# EAGLE library part J-6-PS2-KEYBOARD (library conn)
IBM PS/2 keyboard connector
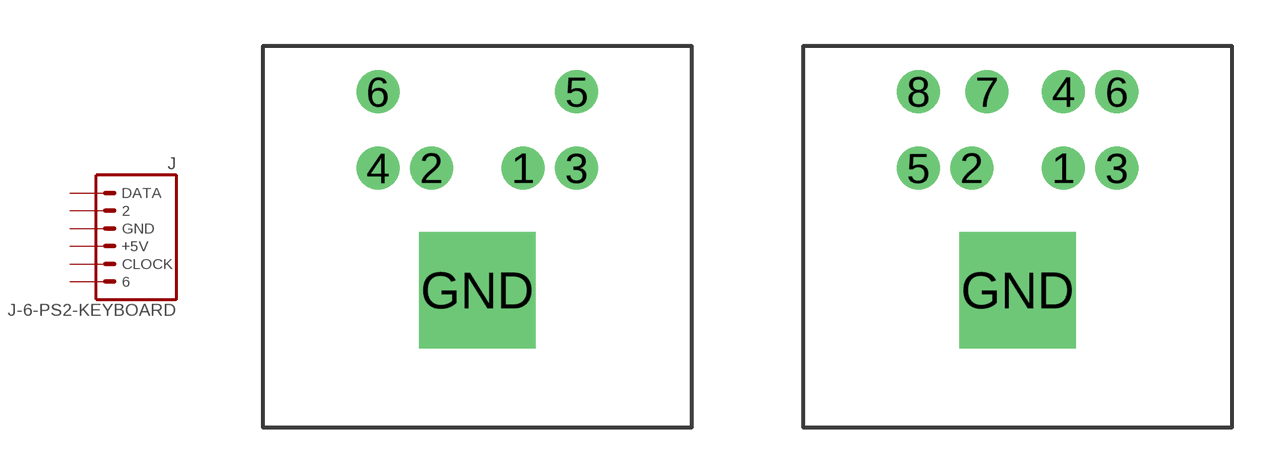
[diagram p5: symbol with the pads of J-6-MINIDIN-KMD11; footprints J-6-MINIDIN-KMD11, J-8-MINIDIN-KMD11]

Designator prefix J

## J-6-PS2-KEYBOARD-MINIDIN6  [J-6-MINIDIN-KMD11]
1  DATA  pas
2  2  pas
3  GND  pas
4  +5V  pas
5  CLOCK  pas
6  6  pas
GND  GND  pas

## J-6-PS2-KEYBOARD-MINIDIN8  [J-8-MINIDIN-KMD11]
1  DATA  pas
2  2  pas
3  GND  pas
5  +5V  pas
6  CLOCK  pas
8  6  pas
GND  GND  pas

## Footprint J-6-MINIDIN-KMD11 (pad centres in mm)
drill 0.9: 1 1.5,0; 2 -1.5,0; 3 3.25,0; 4 -3.25,0; 5 3.25,2.5; 6 -3.25,2.5
drill 2.8 pad 3.81 square: GND 0,-4

## Footprint J-8-MINIDIN-KMD11 (pad centres in mm)
Mini-DIN Socket. Pads are numbered corresponding to Mini-DIN 8 connector pins.
drill 0.9: 1 1.5,0; 2 -1.5,0; 3 3.25,0; 4 1.5,2.5; 5 -3.25,0; 6 3.25,2.5; 7 -1,2.5; 8 -3.25,2.5
drill 2.8 pad 3.81 square: GND 0,-4